# Altium schematic symbol library LED_SK6812.SchLib: 1 symbol
Pins are listed as number, name and electrical type; pins without a type are passive.

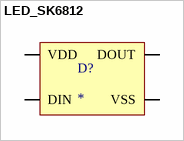
[diagram p0: symbol LED_SK6812]

## LED_SK6812
designator D?
pins: 1 VSS, 2 DIN, 3 VDD, 4 DOUT